# Altium integrated library TI Power Management Current Limited Switch.IntLib: 83 symbols (part 4 of 4)
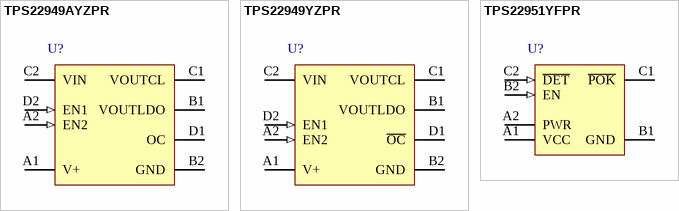
[diagram p5: symbols TPS22949AYZPR to TPS22951YFPR]

## TPS22949AYZPR
designator U?
Current Limited Load Switch with Low Noise Regulation Capability and Inrush Current Limit, 300 mOhms rDS(ON), -40 to 85 degC, 8-pin DSBGA (YZP), Green (RoHS & no Sb/Br); Manufacturer: Texas Instruments; PartNumber: TPS22949AYZPR; Adjustable Current Limit(Min)(A): 0.1; Enable/Shutdown: Active High; Iq(Typ)(uA): 85; Number of FETs: 2; rDS(on) per FET(Typ)(mOhms): 300; SubFamily: Current Limited Switch; Vin(Max)(V): 4.5; Vin(Min)(V): 1.62; DatasheetVersion: SLVS908C; PackageVersion: revI, Feb-2012; PackageReference: YZP8; PackageDescription: 8-Ball Die-Size Ball Grid Array, 1.9 x 0.9 mm Body, 0.5 mm Pitch, Pb-Free; Supplier 1: Digi-Key; Supplier Part Number 1: 296-24927-2-ND; Supplier 2: Digi-Key; Supplier Part Number 2: 296-24927-1-ND; Supplier 3: Digi-Key; Supplier Part Number 3: 296-24927-6-ND; Supplier 4: Newark; Supplier Part Number 4: 50R8102; Supplier 5: Mouser; Supplier Part Number 5: 595-TPS22949AYZPR; Eco-Plan: Green (RoHS & no Sb/Br); Mounting Technology: Surface Mount; ComponentLink1Description: Datasheet; ComponentLink1URL: http://www.ti.com/general/docs/lit/getliterature.tsp?genericPartNumber=TPS22949A&fileType=pdf
footprint YZP8 (BGA, 8-Leads, Body 1.9x0.9mm, Pitch 0.5mm)
pins: A1 V+ (power) "Supply voltage", A2 EN2 (in) "LDO control input. Active high. Do not leave floating.", B1 VOUTLDO (power) "LDO output. Output of the RF LDO fixed to 1.8 V(1).", B2 GND (power) "Ground", C1 VOUTCL (power) "Switch output. Output of the power switch", C2 VIN (power) "Supply input. Input to the power switch; bypass this input with a ceramic capacitor to ground.", D1 OC (oc) "Over current output flag. Active low, open-drain output that indicates an over-current, supply undervoltage, or over-temperature state.", D2 EN1 (in) "Power switch control input. Active high. Do not leave floating."

## TPS22949YZPR
designator U?
Current Limited Load Switch with Low Noise Regulation Capability, 300 mOhms rDS(On), -40 to 85 degC, 8-pin DSBGA (YZP), Green (RoHS & no Sb/Br); Manufacturer: Texas Instruments; PartNumber: TPS22949YZPR; Adjustable Current Limit(Min)(A): 0.1; Enable/Shutdown: Active High; Iq(Typ)(uA): 85; Number of FETs: 2; rDS(on) per FET(Typ)(mOhms): 300; SubFamily: Current Limited Switch; Vin(Max)(V): 4.5; Vin(Min)(V): 1.62; DatasheetVersion: SLVS908C; PackageVersion: revI, Feb-2012; PackageReference: YZP8; PackageDescription: 8-Ball Die-Size Ball Grid Array, 1.9 x 0.9 mm Body, 0.5 mm Pitch, Pb-Free; Supplier 1: Digi-Key; Supplier Part Number 1: 296-24209-2-ND; Supplier 2: Digi-Key; Supplier Part Number 2: 296-24209-1-ND; Supplier 3: Digi-Key; Supplier Part Number 3: 296-24209-6-ND; Supplier 4: Newark; Supplier Part Number 4: 71P8447; Supplier 5: Mouser; Supplier Part Number 5: 595-TPS22949YZPR; Eco-Plan: Green (RoHS & no Sb/Br); Mounting Technology: Surface Mount; ComponentLink1Description: Datasheet; ComponentLink1URL: http://www.ti.com/general/docs/lit/getliterature.tsp?genericPartNumber=TPS22949&fileType=pdf
footprint YZP8 (BGA, 8-Leads, Body 1.9x0.9mm, Pitch 0.5mm)
pins: A1 V+ (power) "Supply voltage", A2 EN2 (in) "LDO control input. Active high. Do not leave floating", B1 VOUTLDO (power) "LDO output. Output of the RF LDO fixed to 1.8 V(1).", B2 GND (power) "Ground", C1 VOUTCL (power) "Switch output. Output of the power switch", C2 VIN (power) "Supply input. Input to the power switch; bypass this input with a ceramic capacitor to ground.", D1 ~{OC} (oc) "Over current output flag. Active low, open-drain output that indicates an over-current, supply undervoltage, or over-temperature state.", D2 EN1 (in) "Power switch control input. Active high. Do not leave floating."

## TPS22951YFPR
designator U?
Current-Limited, Power-Distribution Switch, 1000 mOhms rDS(On), -40 to 85 degC, 6-pin DSBGA (YFP), Green (RoHS & no Sb/Br); Manufacturer: Texas Instruments; PartNumber: TPS22951YFPR; Adjustable Current Limit(Min)(A): 0.6; Enable/Shutdown: Active High; Iq(Typ)(uA): 100; Number of FETs: 1; rDS(on) per FET(Typ)(mOhms): 1000; SubFamily: Current Limited Switch; Vin(Max)(V): 5.3; Vin(Min)(V): 2.8; DatasheetVersion: SLVS788A; PackageVersion: revQ, Sep-2011; PackageReference: YFP6; PackageDescription: 6-Ball Die-Size Ball Grid Array, 1.16 x 0.76 mm Body, 0.4 mm Pitch, Pb-Free; Supplier 1: Digi-Key; Supplier Part Number 1: 296-24773-2-ND; Supplier 2: Digi-Key; Supplier Part Number 2: 296-24773-1-ND; Supplier 3: Digi-Key; Supplier Part Number 3: 296-24773-6-ND; Supplier 4: Newark; Supplier Part Number 4: 95M0030; Supplier 5: Mouser; Supplier Part Number 5: 595-TPS22951YFPR; Eco-Plan: Green (RoHS & no Sb/Br); Mounting Technology: Surface Mount; ComponentLink1Description: Datasheet; ComponentLink1URL: http://www.ti.com/general/docs/lit/getliterature.tsp?genericPartNumber=TPS22951&fileType=pdf
footprint YFP6 (BGA, 6-Leads, Body 1.16x0.76mm, Pitch 0.4mm)
pins: A1 VCC (power) "Supply voltage", A2 PWR (power) "Power switch output", B1 GND (power) "Ground", B2 EN (in) "Enable input", C1 ~{POK} (hiz) "Power OK switch status open-drain output, active low", C2 ~{DET} (in) "Accessory detect, active low"